# Altium schematic symbol library LCD,Char,16x2,Yel_Grn,Thru.Schlib: 1 symbol
Pins are listed as number, name and electrical type; pins without a type are passive.

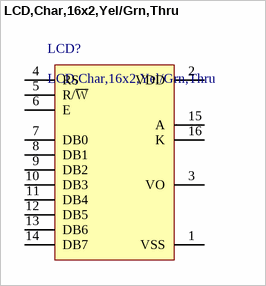
[diagram p0: symbol LCD,Char,16x2,Yel/Grn,Thru]

## LCD,Char,16x2,Yel/Grn,Thru
designator LCD?
Character LCD Display Module Transflective 5 x 8 Dots STN - Super-Twisted Nematic LED - Yellow/Green Parallel 80.00mm x 36.00mm x 13.20mm
pins: 1 VSS, 2 VDD, 3 VO, 4 RS, 5 R/~{W}, 6 E, 7 DB0, 8 DB1, 9 DB2, 10 DB3, 11 DB4, 12 DB5, 13 DB6, 14 DB7, 15 A, 16 K